# Altium footprint library IC.PcbLib: 5 footprints
Each footprint in its own frame and in the unit in brackets; x right, y up, seen from the top. Pads: shape width x height; smd on the part's side, far side on the other; paste and mask are expansions set on the pad; w line width, h text height; cw(c..) or ccw(c..) is an arc to the next point about the centre after c.
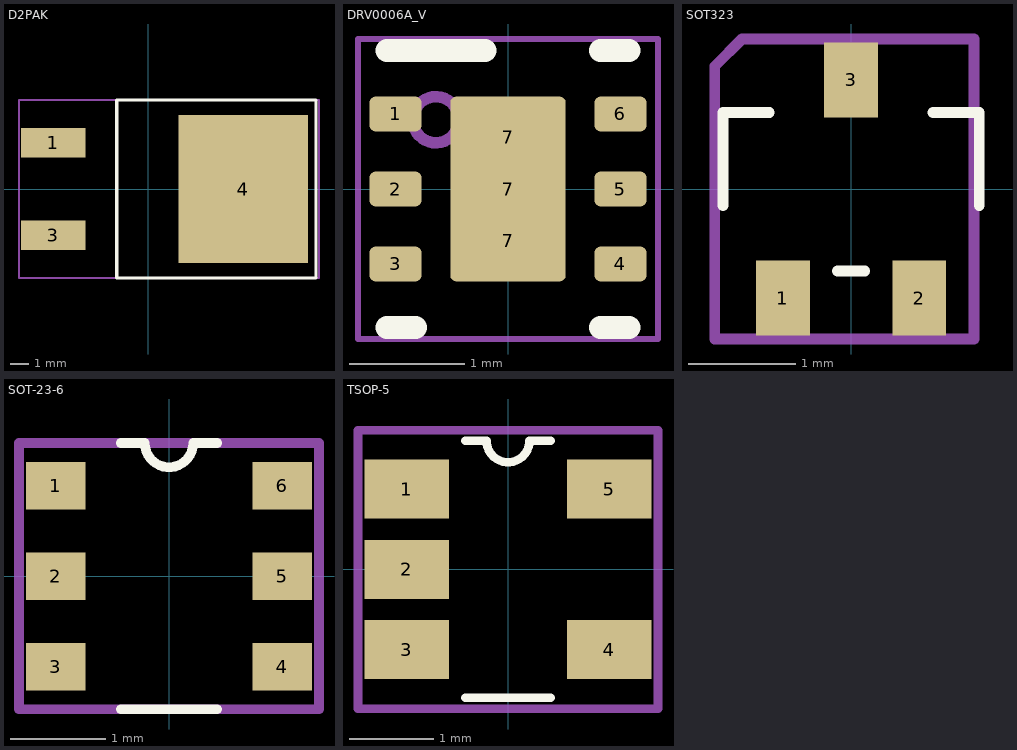
[diagram p0: the footprints below, top view; thin cyan lines are the x and y axes]

## D2PAK [mm]
pads (3):
  rect 3.5x1.6 smd: 1(-5.15,2.5) 3(-5.15,-2.5)
  rect 7x8 smd: 4(5.15,0)
Top Overlay:
  lines w0.178: -1.703,-4.826 0.924,-4.826 9.092,-4.826 9.092,4.826 -1.703,4.826 -1.703,-4.826
Assembly:
  lines w0.102: -7,-4.826 9.25,-4.826 9.25,4.826 -7,4.826 -7,-4.826
  text "'.Designator'" at -1.576,-0.762 h1.52
3D body "d2pak.step": height 4.78, standoff -0.24, extent -6.666,-5.08 8.597,5.08

## DRV0006A_V [mm] "SON, 6-Leads, Body 2x2mm, Pitch 0.65mm, Thermal Pad 1.6x1mm, TI Recommended"
height 0.8
pads (9):
  rrect33% 0.45x0.3 smd: 1(-0.975,0.65) 2(-0.975,0) 3(-0.975,-0.65) 4(0.975,-0.65) 5(0.975,0) 6(0.975,0.65)
  rrect14% 1x0.7 on Top Paste: 7(0,-0.45) 7(0,0.45)
  rrect10% 1x1.6 smd paste-0.5: 7(0,0)
Top Overlay:
  lines w0.2: -1.05,-1.2 -0.8,-1.2 ; -1.05,1.2 -0.2,1.2 ; 0.8,-1.2 1.05,-1.2 ; 0.8,1.2 1.05,1.2
Assembly:
  circle w0.1: c-0.625,0.6 r0.2
  lines w0.05: -1.3,-1.3 1.3,-1.3 1.3,1.3 -1.3,1.3 -1.3,-1.3
  text ".Designator" at -0.9,-0.5 h0.51
3D body: height 0.8, standoff 0, extent -1.05,-1.05 1.05,1.05
3D body: height 0.81, standoff 0.5, extent -0.824,0.401 -0.426,0.799

## SOT323 [mm]
pads (3):
  rect 0.5x0.7 smd mask+0.02: 1(-0.635,-1.016) 2(0.635,-1.016) 3(0,1.016)
Top Overlay:
  lines w0.102: -1.194,-0.152 -1.194,0.711 -0.762,0.711 ; -0.127,-0.762 0.127,-0.762 ; 0.762,0.711 1.194,0.711 1.194,-0.152
Assembly:
  lines w0.102: -1.27,-1.397 -1.27,1.143 -1.016,1.397 1.143,1.397 1.143,-1.397 -1.27,-1.397
  text "'.Designator'" at -1.016,-0.889 h1.52
3D body "sot-323.step": height 1, standoff 0, extent -1.05,-1.15 1.05,1.15

## SOT-23-6 [mm]
pads (6):
  rect 0.625x0.5 smd mask+0.076: 1(-1.187,0.95) 2(-1.187,0) 3(-1.187,-0.95) 4(1.188,-0.95) 5(1.188,0) 6(1.188,0.95)
Top Overlay:
  lines w0.102: -0.508,-1.397 0.508,-1.397 ; -0.508,1.397 -0.254,1.397 ccw(c0,1.397) 0.254,1.397 0.508,1.397
Assembly:
  lines w0.102: -1.575,-1.397 1.575,-1.397 1.575,1.397 -1.575,1.397 -1.575,-1.397
  text "'.Designator'" at -1.6,-0.813 h1.52
3D body "User Library-SOT23-6-1.step": height 1.09, standoff 0, extent -1.238,-1.397 1.187,1.397

## TSOP-5 [mm]
pads (5):
  rect 1x0.7 smd mask+0.051: 1(-1.2,0.95) 2(-1.2,0) 3(-1.2,-0.95) 4(1.2,-0.95) 5(1.2,0.95)
Top Overlay:
  lines w0.102: -0.508,-1.524 0.508,-1.524 ; -0.508,1.524 -0.254,1.524 ccw(c0,1.524) 0.254,1.524 0.508,1.524
Assembly:
  lines w0.102: -1.778,-1.651 1.778,-1.651 1.778,1.651 -1.778,1.651 -1.778,-1.651
  text "'.Designator'" at -1.143,-0.889 h1.52
3D body "tsop-5.step": height 1.1, standoff 0, extent -1.5,-1.55 1.5,1.55